# Altium schematic symbol library EFM8BB1x_QFN20.SchLib: 1 symbol
Pins are listed as number, name and electrical type; pins without a type are passive.

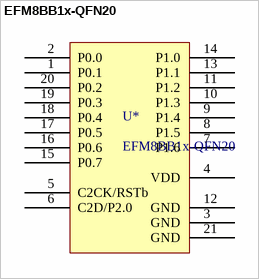
[diagram p0: symbol EFM8BB1x-QFN20]

## EFM8BB1x-QFN20
designator U*
footprint *QFN50P300X300X80-21N
pins: 1 P0.1, 2 P0.0, 3 GND, 4 VDD, 5 C2CK/RSTb, 6 C2D/P2.0, 7 P1.6, 8 P1.5, 9 P1.4, 10 P1.3, 11 P1.2, 12 GND, 13 P1.1, 14 P1.0, 15 P0.7, 16 P0.6, 17 P0.5, 18 P0.4, 19 P0.3, 20 P0.2, 21 GND